# Altium footprint library SMD Resistors 2012.PcbLib: 73 footprints (part 2 of 5)
Each footprint in its own frame and in the unit in brackets; x right, y up, seen from the top. Pads: shape width x height; smd on the part's side, far side on the other; paste and mask are expansions set on the pad; w line width, h text height; cw(c..) or ccw(c..) is an arc to the next point about the centre after c.
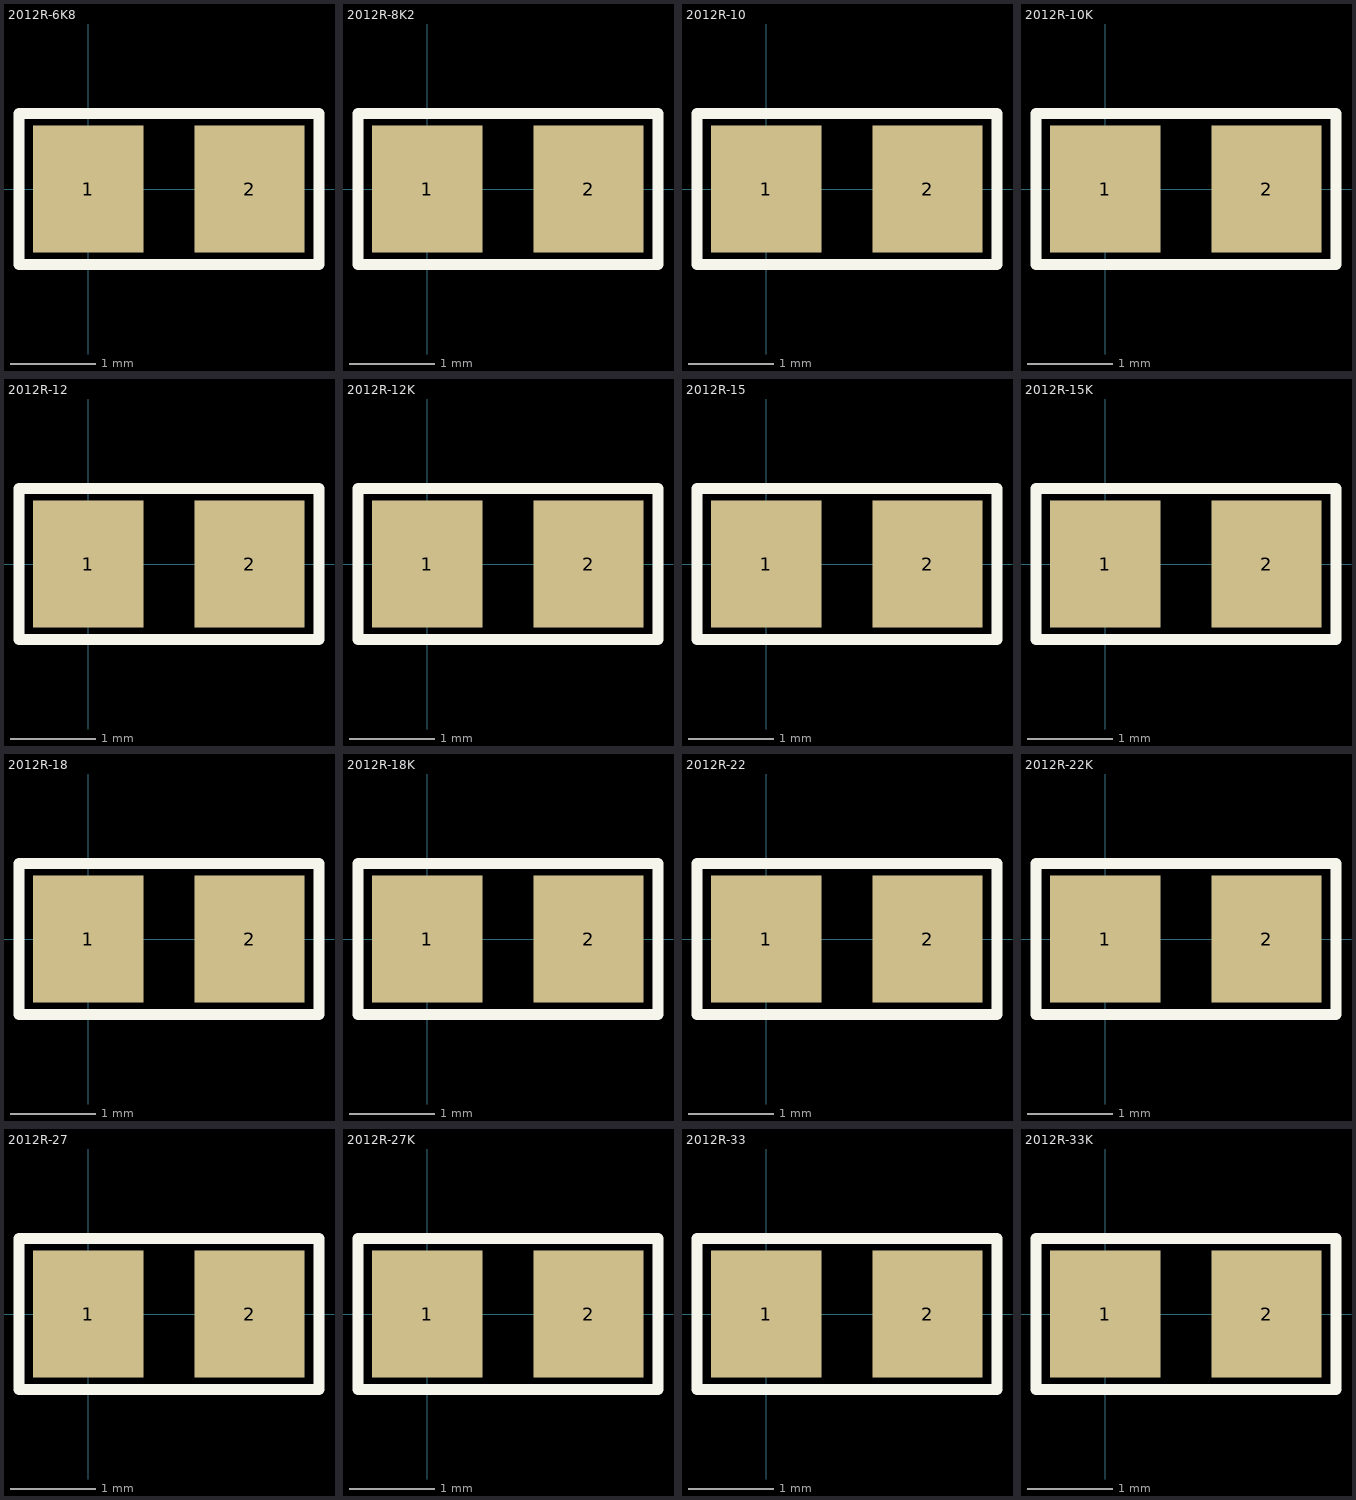
[diagram p1: the footprints below, top view; thin cyan lines are the x and y axes]

## 2012R-6K8 [mm] "RESISTOR 0805"
pads (2):
  rect 1.3x1.5 smd: 1(0,0) 2(1.9,0)
Top Overlay:
  lines w0.127: -0.813,-0.889 -0.813,0.889 2.718,0.889 2.718,-0.889 -0.813,-0.889
3D body: height 0.69, standoff 0.66, extent 1.105,-0.191 1.295,0.191
3D body: height 0.69, standoff 0.66, extent 0.851,-0.191 1.041,0.191
3D body: height 0.69, standoff 0.66, extent 0.597,-0.191 0.787,0.191
3D body: height 0.64, standoff 0, extent -0.051,-0.61 1.956,0.61
3D body: height 0.66, standoff 0, extent -0.076,-0.635 0.33,0.635
3D body: height 0.66, standoff 0.64, extent 0.33,-0.559 1.575,0.559
3D body: height 0.66, standoff 0, extent 1.575,-0.635 1.981,0.635

## 2012R-8K2 [mm] "RESISTOR 0805"
pads (2):
  rect 1.3x1.5 smd: 1(0,0) 2(1.9,0)
Top Overlay:
  lines w0.127: -0.813,-0.889 2.718,-0.889 2.718,0.889 -0.813,0.889 -0.813,-0.889
3D body: height 0.69, standoff 0.66, extent 1.105,-0.191 1.295,0.191
3D body: height 0.66, standoff 0, extent 1.575,-0.635 1.981,0.635
3D body: height 0.66, standoff 0.64, extent 0.33,-0.559 1.575,0.559
3D body: height 0.66, standoff 0, extent -0.076,-0.635 0.33,0.635
3D body: height 0.64, standoff 0, extent -0.051,-0.61 1.956,0.61
3D body: height 0.69, standoff 0.66, extent 0.597,-0.191 0.787,0.191
3D body: height 0.69, standoff 0.66, extent 0.851,-0.191 1.041,0.191

## 2012R-10 [mm] "RESISTOR 0805"
pads (2):
  rect 1.3x1.5 smd: 1(0,0) 2(1.9,0)
Top Overlay:
  lines w0.127: -0.813,-0.889 -0.813,0.889 2.718,0.889 2.718,-0.889 -0.813,-0.889
3D body: height 0.64, standoff 0, extent -0.051,-0.61 1.956,0.61
3D body: height 0.66, standoff 0, extent -0.076,-0.635 0.33,0.635
3D body: height 0.66, standoff 0.64, extent 0.33,-0.559 1.575,0.559
3D body: height 0.66, standoff 0, extent 1.575,-0.635 1.981,0.635
3D body: height 0.69, standoff 0.66, extent 0.851,-0.191 1.041,0.191
3D body: height 0.69, standoff 0.66, extent 0.597,-0.191 0.787,0.191
3D body: height 0.69, standoff 0.66, extent 1.105,-0.191 1.295,0.191

## 2012R-10K [mm] "RESISTOR 0805"
pads (2):
  rect 1.3x1.5 smd: 1(0,0) 2(1.9,0)
Top Overlay:
  lines w0.127: -0.813,-0.889 -0.813,0.889 2.718,0.889 2.718,-0.889 -0.813,-0.889
3D body: height 0.64, standoff 0, extent -0.051,-0.61 1.956,0.61
3D body: height 0.66, standoff 0, extent -0.076,-0.635 0.33,0.635
3D body: height 0.66, standoff 0.64, extent 0.33,-0.559 1.575,0.559
3D body: height 0.66, standoff 0, extent 1.575,-0.635 1.981,0.635
3D body: height 0.69, standoff 0.66, extent 0.851,-0.191 1.041,0.191
3D body: height 0.69, standoff 0.66, extent 0.597,-0.191 0.787,0.191
3D body: height 0.69, standoff 0.66, extent 1.105,-0.191 1.295,0.191

## 2012R-12 [mm] "RESISTOR 0805"
pads (2):
  rect 1.3x1.5 smd: 1(0,0) 2(1.9,0)
Top Overlay:
  lines w0.127: -0.813,-0.889 -0.813,0.889 2.718,0.889 2.718,-0.889 -0.813,-0.889
3D body: height 0.69, standoff 0.66, extent 1.105,-0.191 1.295,0.191
3D body: height 0.69, standoff 0.66, extent 0.597,-0.191 0.787,0.191
3D body: height 0.64, standoff 0, extent -0.051,-0.61 1.956,0.61
3D body: height 0.66, standoff 0, extent -0.076,-0.635 0.33,0.635
3D body: height 0.66, standoff 0.64, extent 0.33,-0.559 1.575,0.559
3D body: height 0.66, standoff 0, extent 1.575,-0.635 1.981,0.635
3D body: height 0.69, standoff 0.66, extent 0.851,-0.191 1.041,0.191

## 2012R-12K [mm] "RESISTOR 0805"
pads (2):
  rect 1.3x1.5 smd: 1(0,0) 2(1.9,0)
Top Overlay:
  lines w0.127: -0.813,-0.889 -0.813,0.889 2.718,0.889 2.718,-0.889 -0.813,-0.889
3D body: height 0.69, standoff 0.66, extent 1.105,-0.191 1.295,0.191
3D body: height 0.69, standoff 0.66, extent 0.597,-0.191 0.787,0.191
3D body: height 0.64, standoff 0, extent -0.051,-0.61 1.956,0.61
3D body: height 0.66, standoff 0, extent -0.076,-0.635 0.33,0.635
3D body: height 0.66, standoff 0.64, extent 0.33,-0.559 1.575,0.559
3D body: height 0.66, standoff 0, extent 1.575,-0.635 1.981,0.635
3D body: height 0.69, standoff 0.66, extent 0.851,-0.191 1.041,0.191

## 2012R-15 [mm] "RESISTOR 0805"
pads (2):
  rect 1.3x1.5 smd: 1(0,0) 2(1.9,0)
Top Overlay:
  lines w0.127: -0.813,-0.889 2.718,-0.889 2.718,0.889 -0.813,0.889 -0.813,-0.889
3D body: height 0.69, standoff 0.66, extent 1.092,-0.191 1.283,0.191
3D body: height 0.69, standoff 0.66, extent 0.597,-0.191 0.787,0.191
3D body: height 0.69, standoff 0.66, extent 0.838,-0.191 1.029,0.191
3D body: height 0.66, standoff 0, extent 1.575,-0.635 1.981,0.635
3D body: height 0.66, standoff 0.64, extent 0.33,-0.559 1.575,0.559
3D body: height 0.66, standoff 0, extent -0.076,-0.635 0.33,0.635
3D body: height 0.64, standoff 0, extent -0.051,-0.61 1.956,0.61

## 2012R-15K [mm] "RESISTOR 0805"
pads (2):
  rect 1.3x1.5 smd: 1(0,0) 2(1.9,0)
Top Overlay:
  lines w0.127: -0.813,-0.889 2.718,-0.889 2.718,0.889 -0.813,0.889 -0.813,-0.889
3D body: height 0.69, standoff 0.66, extent 1.092,-0.191 1.283,0.191
3D body: height 0.69, standoff 0.66, extent 0.597,-0.191 0.787,0.191
3D body: height 0.69, standoff 0.66, extent 0.838,-0.191 1.029,0.191
3D body: height 0.66, standoff 0, extent 1.575,-0.635 1.981,0.635
3D body: height 0.66, standoff 0.64, extent 0.33,-0.559 1.575,0.559
3D body: height 0.66, standoff 0, extent -0.076,-0.635 0.33,0.635
3D body: height 0.64, standoff 0, extent -0.051,-0.61 1.956,0.61

## 2012R-18 [mm] "RESISTOR 0805"
pads (2):
  rect 1.3x1.5 smd: 1(0,0) 2(1.9,0)
Top Overlay:
  lines w0.127: -0.813,-0.889 -0.813,0.889 2.718,0.889 2.718,-0.889 -0.813,-0.889
3D body: height 0.69, standoff 0.66, extent 1.105,-0.191 1.295,0.191
3D body: height 0.64, standoff 0, extent -0.051,-0.61 1.956,0.61
3D body: height 0.66, standoff 0, extent -0.076,-0.635 0.33,0.635
3D body: height 0.66, standoff 0.64, extent 0.33,-0.559 1.575,0.559
3D body: height 0.66, standoff 0, extent 1.575,-0.635 1.981,0.635
3D body: height 0.69, standoff 0.66, extent 0.597,-0.191 0.787,0.191
3D body: height 0.69, standoff 0.66, extent 0.851,-0.191 1.041,0.191

## 2012R-18K [mm] "RESISTOR 0805"
pads (2):
  rect 1.3x1.5 smd: 1(0,0) 2(1.9,0)
Top Overlay:
  lines w0.127: -0.813,-0.889 -0.813,0.889 2.718,0.889 2.718,-0.889 -0.813,-0.889
3D body: height 0.64, standoff 0, extent -0.051,-0.61 1.956,0.61
3D body: height 0.66, standoff 0, extent -0.076,-0.635 0.33,0.635
3D body: height 0.66, standoff 0.64, extent 0.33,-0.559 1.575,0.559
3D body: height 0.66, standoff 0, extent 1.575,-0.635 1.981,0.635
3D body: height 0.69, standoff 0.66, extent 0.597,-0.191 0.787,0.191
3D body: height 0.69, standoff 0.66, extent 0.851,-0.191 1.041,0.191
3D body: height 0.69, standoff 0.66, extent 1.105,-0.191 1.295,0.191

## 2012R-22 [mm] "RESISTOR 0805"
pads (2):
  rect 1.3x1.5 smd: 1(0,0) 2(1.9,0)
Top Overlay:
  lines w0.127: -0.813,-0.889 -0.813,0.889 2.718,0.889 2.718,-0.889 -0.813,-0.889
3D body: height 0.64, standoff 0, extent -0.051,-0.61 1.956,0.61
3D body: height 0.66, standoff 0, extent -0.076,-0.635 0.33,0.635
3D body: height 0.66, standoff 0.64, extent 0.33,-0.559 1.575,0.559
3D body: height 0.66, standoff 0, extent 1.575,-0.635 1.981,0.635
3D body: height 0.69, standoff 0.66, extent 0.597,-0.191 0.787,0.191
3D body: height 0.69, standoff 0.66, extent 0.851,-0.191 1.041,0.191
3D body: height 0.69, standoff 0.66, extent 1.105,-0.178 1.295,0.203

## 2012R-22K [mm] "RESISTOR 0805"
pads (2):
  rect 1.3x1.5 smd: 1(0,0) 2(1.9,0)
Top Overlay:
  lines w0.127: -0.813,-0.889 2.718,-0.889 2.718,0.889 -0.813,0.889 -0.813,-0.889
3D body: height 0.69, standoff 0.66, extent 0.851,-0.191 1.041,0.191
3D body: height 0.69, standoff 0.66, extent 0.597,-0.191 0.787,0.191
3D body: height 0.66, standoff 0, extent 1.575,-0.635 1.981,0.635
3D body: height 0.66, standoff 0.64, extent 0.33,-0.559 1.575,0.559
3D body: height 0.66, standoff 0, extent -0.076,-0.635 0.33,0.635
3D body: height 0.64, standoff 0, extent -0.051,-0.61 1.956,0.61
3D body: height 0.69, standoff 0.66, extent 1.105,-0.191 1.295,0.191

## 2012R-27 [mm] "RESISTOR 0805"
pads (2):
  rect 1.3x1.5 smd: 1(0,0) 2(1.9,0)
Top Overlay:
  lines w0.127: -0.813,-0.889 -0.813,0.889 2.718,0.889 2.718,-0.889 -0.813,-0.889
3D body: height 0.69, standoff 0.66, extent 1.105,-0.191 1.295,0.191
3D body: height 0.64, standoff 0, extent -0.051,-0.61 1.956,0.61
3D body: height 0.66, standoff 0, extent -0.076,-0.635 0.33,0.635
3D body: height 0.66, standoff 0.64, extent 0.33,-0.559 1.575,0.559
3D body: height 0.66, standoff 0, extent 1.575,-0.635 1.981,0.635
3D body: height 0.69, standoff 0.66, extent 0.851,-0.191 1.041,0.191
3D body: height 0.69, standoff 0.66, extent 0.597,-0.191 0.787,0.191

## 2012R-27K [mm] "RESISTOR 0805"
pads (2):
  rect 1.3x1.5 smd: 1(0,0) 2(1.9,0)
Top Overlay:
  lines w0.127: -0.813,-0.889 2.718,-0.889 2.718,0.889 -0.813,0.889 -0.813,-0.889
3D body: height 0.69, standoff 0.66, extent 0.597,-0.191 0.787,0.191
3D body: height 0.69, standoff 0.66, extent 0.851,-0.191 1.041,0.191
3D body: height 0.66, standoff 0, extent 1.575,-0.635 1.981,0.635
3D body: height 0.66, standoff 0.64, extent 0.33,-0.559 1.575,0.559
3D body: height 0.66, standoff 0, extent -0.076,-0.635 0.33,0.635
3D body: height 0.64, standoff 0, extent -0.051,-0.61 1.956,0.61
3D body: height 0.69, standoff 0.66, extent 1.105,-0.191 1.295,0.191

## 2012R-33 [mm] "RESISTOR 0805"
pads (2):
  rect 1.3x1.5 smd: 1(0,0) 2(1.9,0)
Top Overlay:
  lines w0.127: -0.813,-0.889 -0.813,0.889 2.718,0.889 2.718,-0.889 -0.813,-0.889
3D body: height 0.64, standoff 0, extent -0.051,-0.61 1.956,0.61
3D body: height 0.66, standoff 0, extent -0.076,-0.635 0.33,0.635
3D body: height 0.66, standoff 0.64, extent 0.33,-0.559 1.575,0.559
3D body: height 0.66, standoff 0, extent 1.575,-0.635 1.981,0.635
3D body: height 0.69, standoff 0.66, extent 0.851,-0.191 1.041,0.191
3D body: height 0.69, standoff 0.66, extent 0.597,-0.191 0.787,0.191
3D body: height 0.69, standoff 0.66, extent 1.105,-0.191 1.295,0.191

## 2012R-33K [mm] "RESISTOR 0805"
pads (2):
  rect 1.3x1.5 smd: 1(0,0) 2(1.9,0)
Top Overlay:
  lines w0.127: -0.813,-0.889 -0.813,0.889 2.718,0.889 2.718,-0.889 -0.813,-0.889
3D body: height 0.64, standoff 0, extent -0.051,-0.61 1.956,0.61
3D body: height 0.66, standoff 0, extent -0.076,-0.635 0.33,0.635
3D body: height 0.66, standoff 0.64, extent 0.33,-0.559 1.575,0.559
3D body: height 0.66, standoff 0, extent 1.575,-0.635 1.981,0.635
3D body: height 0.69, standoff 0.66, extent 0.851,-0.191 1.041,0.191
3D body: height 0.69, standoff 0.66, extent 0.597,-0.191 0.787,0.191
3D body: height 0.69, standoff 0.66, extent 1.105,-0.191 1.295,0.191